# Altium schematic symbol library 1N4007-TP1_1N4007-TP.SCHLIB: 1 symbol
Pins are listed as number, name and electrical type; pins without a type are passive.

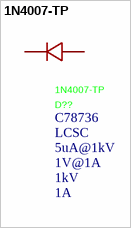
[diagram p0: symbol 1N4007-TP]

## 1N4007-TP
designator D??  Supplier Part: C78736  Supplier: LCSC  Voltage - Forward(Vf@If): 1V@1A  Voltage - DC Reverse(Vr): 1kV  Current - Rectified: 1A  Reverse Leakage Current (Ir): 5uA@1kV
Manufacturer: MCC(美微科); Add into BOM: yes; Non-Repetitive Peak Forward Surge Current: 30A; Operating Junction Temperature Range: -55℃~+150℃; Symbol: 1N4007-TP; Device: 1N4007-TP; Supplier Footprint: DO-41; LCSC Part Name: 1N4007-TP; Manufacturer Part: 1N4007-TP; JLCPCB Part Class: Extended Part; Datasheet: https://item.szlcsc.com/datasheet/1N4007-TP/79873.html; Convert to PCB: yes; Diode Configuration: -
footprint DO-41_BD2.4-L4.7-P8.70-D0.9-RD
3D model DO-41_D2.4-L4.7-P8.70
pins: 1 C, 2 A